# Altium schematic symbol library Esp32 CAM SCH.SchLib: 28 symbols
Pins are listed as number, name and electrical type; pins without a type are passive.

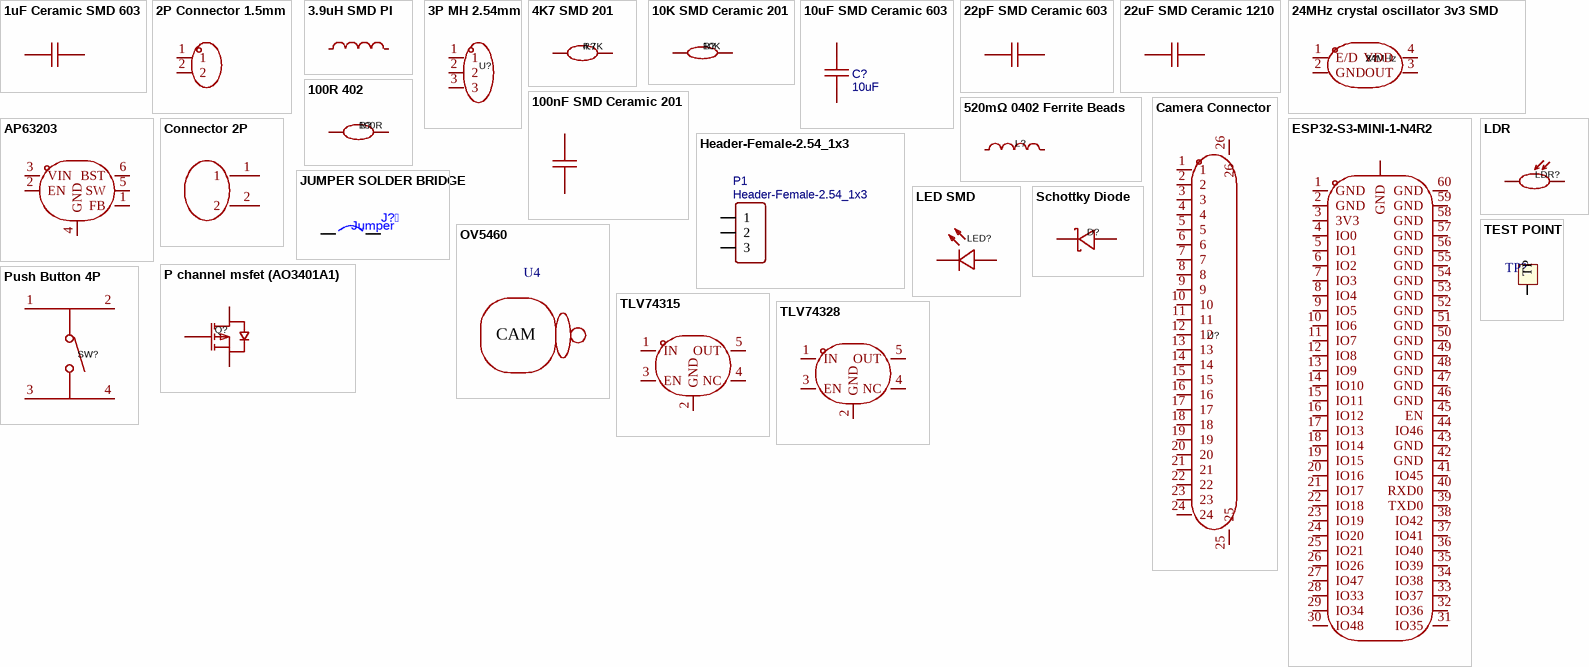
[diagram p0: symbols 1uF Ceramic SMD 603 to TLV74328]

## 1uF Ceramic SMD 603
designator C?, comment 1uF  (value not drawn)
16V 1uF Y5V -20%~+80% 0603 Multilayer Ceramic Capacitors MLCC - SMD/SMT ROHS; Manufacturer: SAMWHA(三和); Symbol: CS1608Y5V105Z160NRB; Add into BOM: yes; Device: CS1608Y5V105Z160NRB; LCSC Part Name: 1uF -20%~+80% 16V; Supplier Part: C5189821; Manufacturer Part: CS1608Y5V105Z160NRB; Supplier Footprint: 0603; JLCPCB Part Class: Extended Part; Datasheet: https://atta.szlcsc.com/upload/public/pdf/source/20221012/139B9393213A50C271C48844AD3DF211.pdf; Supplier: LCSC; Convert to PCB: yes; Value: 1uF; Tolerance: -20%~+80%
footprint 1uF Cap
pins: 1, 2

## 2P Connector 1.5mm
designator CN?, comment HDGC1501WV-2P  (value not drawn)
Manufacturer: HDGC(华德共创); Add into BOM: yes; Pins Structure: 1x2P; Pitch: 1.5mm; Reference Series: ZH; Number of PINs Per Row: 2; Current Rating (Max): 1A; Symbol: HDGC1501WV-2P; Device: HDGC1501WV-2P; LCSC Part Name: 1x2P 间距:1.5mm 直插 系列:ZH; Supplier Part: C5175212; Manufacturer Part: HDGC1501WV-2P; Supplier Footprint: 插件,P=1.5mm; JLCPCB Part Class: Extended Part; Datasheet: https://atta.szlcsc.com/upload/public/pdf/source/20220916/0E4647A3A85E9D7CFB69507DE86E8F95.pdf; Supplier: LCSC; Convert to PCB: yes; Mounting Style: Direct Insert; Number of Pins: 2P; Number of Rows: 1
footprint 2P white Connector 1.5mm
pins: 1, 2

## 3.9uH SMD PI
designator L?, comment 3.9uH  (value not drawn)
1.5A 3.9uH ±20% 1.4A SMD,3x3mm Power Inductors ROHS; Manufacturer: cjiang(长江微电); Symbol: FNR3015S3R9MT; Add into BOM: yes; DC Resistance (DCR): 137mΩ; Device: FNR3015S3R9MT; LCSC Part Name: 3.9uH ±20% 1.4A; Supplier Part: C167751; Manufacturer Part: FNR3015S3R9MT; Supplier Footprint: SMD,3x3mm; JLCPCB Part Class: Extended Part; Datasheet: https://atta.szlcsc.com/upload/public/pdf/source/20190327/C167925_9EFF0AABC4CA629C2CC95961DBF7D39D.pdf; Supplier: LCSC; Convert to PCB: yes; Value: 3.9uH; Tolerance: ±20%; Saturation Current (Isat): 1.4A
footprint 3.9uH power Inductor
pins: 1, 2

## 3P MH 2.54mm
designator U?, comment HB-PH3-25413PB2GOP  (value not drawn)
Manufacturer: HANBO(汉博); Add into BOM: yes; Pin Structure: 1x3P; Pitch: 2.54mm; Circluar Pins/Square Pins: Square Pins; Current Rating (Max): 3A; Voltage Rating (Max): 250V; Soldering Temperature(Max): 260℃; Symbol: HB-PH3-25413PB2GOP; Device: HB-PH3-25413PB2GOP; LCSC Part Name: 间距:2.54mm 1x3P 直插 方针; Supplier Part: C6332196; Manufacturer Part: HB-PH3-25413PB2GOP; Supplier Footprint: 插件,P=2.54mm; JLCPCB Part Class: Extended Part; Datasheet: https://atta.szlcsc.com/upload/public/pdf/source/20230803/F72D259687963761DF1B552F3BB84A31.pdf; Supplier: LCSC; Convert to PCB: yes; Row Spacing: 2.54mm; Mounting Type: Straight; Number of Rows: Plugin; Number of Pins: 3P; Length of Mating Pin: 6mm; Insulation Height: 2.54mm; Length of End Connection Pin: 3mm; Contact Plating: Gold; Operating Temperature Range: -40℃~+105℃; Color: Black
footprint 3P MH 2.54mm
pins: 1, 2, 3

## 4K7 SMD 201
designator R?, comment 4.7K
50mW Thick Film Resistors 25V ±1% ±200ppm/℃ 4.7kΩ 0201 Chip Resistor - Surface Mount ROHS; Manufacturer: YAGEO(国巨); Symbol: AF0201FR-074K7L; Add into BOM: yes; Device: AF0201FR-074K7L; LCSC Part Name: 厚膜电阻 4.7kΩ ±1% 50mW; Supplier Part: C2105831; Manufacturer Part: AF0201FR-074K7L; Supplier Footprint: 0201; JLCPCB Part Class: Extended Part; Datasheet: https://atta.szlcsc.com/upload/public/pdf/source/20210712/C2105831_B7E5D2600BF229B29F1C9CE0CCE2B3D7.pdf; Supplier: LCSC; Convert to PCB: yes; Type: Thick Film Resistors; Value: 4.7kΩ; Tolerance: ±1%; Temperature Coefficient: ±200ppm/℃; Operating Temperature Range: -55℃~+125℃
pins: 1, 2

## 10K SMD Ceramic 201
designator R?, comment 10K
50mW Thick Film Resistors 25V ±1% ±200ppm/℃ 10kΩ 0201 Chip Resistor - Surface Mount ROHS; Manufacturer: YAGEO(国巨); Symbol: AF0201FR-0710KL; Add into BOM: yes; Device: AF0201FR-0710KL; LCSC Part Name: 厚膜电阻 10kΩ ±1% 50mW; Supplier Part: C143978; Manufacturer Part: AF0201FR-0710KL; Supplier Footprint: 0201; JLCPCB Part Class: Extended Part; Datasheet: https://atta.szlcsc.com/upload/public/pdf/source/20180927/C229861_4ABDC471507C1ED6AFB4BA66AFC8620A.pdf; Supplier: LCSC; Convert to PCB: yes; Type: Thick Film Resistors; Value: 10kΩ; Tolerance: ±1%; Temperature Coefficient: ±200ppm/℃; Operating Temperature Range: -55℃~+125℃
footprint 10K SMD Ceramic 201
pins: 1, 2

## 10uF SMD Ceramic 603
designator C?, comment 10uF
10V 10uF B ±10% 0603 Multilayer Ceramic Capacitors MLCC - SMD/SMT ROHS; Manufacturer: muRata(村田); Manufacturer Part: GRM188B31A106KE69D; nameAlias: Value; Contributor: LCSC; Supplier: LCSC; Supplier Part: C469532; JLCPCB Part Class: Extended Part; spicePre: C; spiceSymbolName: GRM188B31A106KE69D
footprint 10uF SMD Ceramic 603
pins: 1, 2

## 22pF SMD Ceramic 603
designator C?, comment 22pF  (value not drawn)
16V 22pF C0G ±5% 0603 Multilayer Ceramic Capacitors MLCC - SMD/SMT ROHS; Manufacturer: KEMET(基美); Symbol: C0603C220J4GAC7867; Add into BOM: yes; Device: C0603C220J4GAC7867; LCSC Part Name: 22pF ±5% 16V; Supplier Part: C561800; Manufacturer Part: C0603C220J4GAC7867; Supplier Footprint: 0603; JLCPCB Part Class: Extended Part; Datasheet: https://atta.szlcsc.com/upload/public/pdf/source/20200618/C561800_1756A88345AB30E1FCE50DFDDC46141D.pdf; Supplier: LCSC; Convert to PCB: yes; Value: 22pF; Tolerance: ±5%
footprint 22pF SMD Ceramic 603
pins: 1, 2

## 22uF SMD Ceramic 1210
designator C?, comment 22uF  (value not drawn)
10V 22uF X7R ±10% 1210 Multilayer Ceramic Capacitors MLCC - SMD/SMT ROHS; Manufacturer: KEMET(基美); Symbol: C1210C226K8RACAUTO; Add into BOM: yes; Device: C1210C226K8RACAUTO; LCSC Part Name: 22uF ±10% 10V; Supplier Part: C561843; Manufacturer Part: C1210C226K8RACAUTO; Supplier Footprint: 1210; JLCPCB Part Class: Extended Part; Datasheet: https://atta.szlcsc.com/upload/public/pdf/source/20200618/C561824_5D581F10239D32C68F7958F74E29471B.pdf; Supplier: LCSC; Convert to PCB: yes; Value: 22uF; Tolerance: ±10%
footprint 22uF SMD Ceramic 1210
pins: 1, 2

## 24MHz crystal oscillator 3v3 SMD
designator X?, comment 24MHz
3.3V 10mA ±50ppm 24MHz SMD3225-4P Crystal Oscillators ROHS; Manufacturer: HD(浩都频率); Symbol: 830240003W1; Add into BOM: yes; Device: 830240003W1; LCSC Part Name: 830240003W1; Supplier Part: C655082; Manufacturer Part: 830240003W1; Supplier Footprint: SMD3225-4P; JLCPCB Part Class: Extended Part; Datasheet: https://atta.szlcsc.com/upload/public/pdf/source/20220223/C18A1C64EF3D60DAEF5D17439C785677.pdf; Supplier: LCSC; Convert to PCB: yes; Value: 24MHz; Supply Voltage: 3.3V; Supply Current (Max): 10mA; Frequency Stability(Full temperature range): ±50ppm; Operating Temperature: -20℃~+70℃
footprint 24MHz crystal oscillator 3v3 SMD
pins: 1 E/D, 2 GND, 3 OUT, 4 VDD

## 100nF SMD Ceramic 201
designator C?, comment 100nF  (value not drawn)
10V 100nF X5R ±10% 0201 Multilayer Ceramic Capacitors MLCC - SMD/SMT ROHS; Manufacturer: muRata(村田); Symbol: GRM033R61A104KE84D; Add into BOM: yes; Device: GRM033R61A104KE84D; LCSC Part Name: 100nF ±10% 10V; Supplier Part: C161466; Manufacturer Part: GRM033R61A104KE84D; Supplier Footprint: 0201; JLCPCB Part Class: Extended Part; Datasheet: https://atta.szlcsc.com/upload/public/pdf/source/20181011/C161466_67687620A192BB2B75972275444AF1E7.pdf; Supplier: LCSC; Convert to PCB: yes; Value: 100nF; Tolerance: ±10%
footprint 100nF SMD Ceramic 201
pins: 1, 2

## 100R 402
designator R?, comment 100R
100mW Thick Film Resistors ±100ppm/℃ ±1% 100Ω 0402 Chip Resistor - Surface Mount ROHS; Manufacturer: PANASONIC(松下); Symbol: ERJ2RKF1000X; Add into BOM: yes; Device: ERJ2RKF1000X; LCSC Part Name: 100Ω ±1% 100mW 厚膜电阻; Supplier Part: C413063; Manufacturer Part: ERJ2RKF1000X; Supplier Footprint: 0402; JLCPCB Part Class: Extended Part; Datasheet: https://atta.szlcsc.com/upload/public/pdf/source/20190820/C413063_95D61CC78C57CA6EC5636452389D6E3B.pdf; Supplier: LCSC; Convert to PCB: yes; Type: Thick Film Resistors; Value: 100Ω; Tolerance: ±1%; Overload Voltage (Max): -; Temperature Coefficient: ±100ppm/℃; Operating Temperature Range: -55℃~+155℃
footprint 100R 402
pins: 1, 2

## 520mΩ 0402 Ferrite Beads
designator L?
520mΩ ±25% 600Ω@100MHz 0402 Ferrite Beads ROHS; Manufacturer: muRata(村田); Symbol: BLM15AG601SN1D; Add into BOM: yes; Current Rating: 300mA; Circuits: 1; Device: BLM15AG601SN1D; LCSC Part Name: 单路 0402磁珠 阻抗600Ω@100MHz; Supplier Part: C76884; Manufacturer Part: BLM15AG601SN1D; Supplier Footprint: 0402; JLCPCB Part Class: Extended Part; Datasheet: https://atta.szlcsc.com/upload/public/pdf/source/20181120/C333978_3E581FB55966932B05020139ABDE8E01.pdf; Supplier: LCSC; Convert to PCB: yes; Impedance @ Frequency: 600Ω@100MHz; Tolerance: ±25%; DC Resistance: 520mΩ
footprint Ferrite
pins: 1, 2

## AP63203
designator U?, comment AP63203WU-7  (value not drawn)
Step-down type Fixed 2A 3.3V 3.8V~32V TSOT-23-6 DC-DC Converters ROHS; Manufacturer: DIODES(美台); Add into BOM: yes; Switching Frequency: 1.1MHz; Number of Outputs: 1; Switch tube (built-in/external): 内置; Symbol: AP63203WU-7; Device: AP63203WU-7; LCSC Part Name: AP63203WU-7; Supplier Part: C780769; Manufacturer Part: AP63203WU-7; Supplier Footprint: TSOT-23-6; JLCPCB Part Class: Extended Part; Datasheet: https://atta.szlcsc.com/upload/public/pdf/source/20210622/C780769_099C67289BD3EC61AAFB52D8B07125B3.pdf; Supplier: LCSC; Convert to PCB: yes; Function: Step-down type; Output Type: Fixed; Input Voltage: 3.8V~32V; Output Voltage: 3.3V; Output Current (Max): 2A; Operating Temperature: -40℃~+85℃@(TA); Synchronous Rectification: Yes; Topology: Step-down
footprint 3V3 Converter (AP63203)
pins: 1 FB, 2 EN, 3 VIN, 4 GND, 5 SW, 6 BST

## Camera Connector
designator U?, comment FPC-05FB-24PH20  (value not drawn)
Dual-sided contacts / top and bottom connection -25℃~+85℃ Flip type 0.5mm Horizontal attachment 24P SMD; Manufacturer: XUNPU(讯普); Add into BOM: yes; Locking Feature: Clamshell; FFC, FCB Thickness: 0.3mm; Symbol: FPC-05FB-24PH20; Device: FPC-05FB-24PH20; LCSC Part Name: 间距:0.5mm P数:24P 翻盖式 双侧触点/上下接; Supplier Part: C2856831; Manufacturer Part: FPC-05FB-24PH20; Supplier Footprint: SMD,P=0.5mm,卧贴; JLCPCB Part Class: Extended Part; Datasheet: https://atta.szlcsc.com/upload/public/pdf/source/20210922/C2856831_717985F95873A81D5C0B7E3F2E5E5327.pdf; Supplier: LCSC; Convert to PCB: yes; Contact Type: Double-sided contacts/up and down connection; Number of Contacts: 24P; Pitch: 0.5mm; Mounting Type: 卧贴; Height Above Board: 2mm; Operating Temperature Range: -25℃~+85℃
footprint Camera Connector
pins: 1, 2, 3, 4, 5, 6, 7, 8, 9, 10, 11, 12, 13, 14, 15, 16, 17, 18, 19, 20, 21, 22, 23, 24, 25, 26

## Connector 2P
designator CN?, comment B2B-PH-K-S(LF)(SN)  (value not drawn)
1x2P 2P PH Tin 2 -25℃~+85℃ 2A 1 2mm Brass Direct Insert Plugin,P=2mm Wire To Board Connector ROHS; Manufacturer: JST; Add into BOM: yes; Number of PINs Per Row: 2; Rated Voltage (Max): 100V; Plastic Material: PA66; Flame Retardant Rating: UL94V-0; Supplementary Features: K-leg punch; Z-Height of the Board: 6mm; X-Length of Bottom Edge on Board (Spacing Line): 5.9mm; Y-Width of Bottom Edge on Board: 4.5mm; Symbol: B2B-PH-K-S(LF)(SN); Device: B2B-PH-K-S(LF)(SN); LCSC Part Name: 1x2P 间距:2mm 直插 系列:PH; Supplier Part: C131337; Manufacturer Part: B2B-PH-K-S(LF)(SN); Supplier Footprint: 插件,P=2mm; JLCPCB Part Class: Extended Part; Datasheet: https://atta.szlcsc.com/upload/public/pdf/source/20171026/C131342_15089839687311058815.pdf; Supplier: LCSC; Convert to PCB: yes; Pins Structure: 1x2P; Pitch: 2mm; Mounting Style: Direct Insert; Reference Series: PH; Number of Pins: 2P; Number of Rows: 1; Row Spacing: -; Current Rating (Max): 2A; Contact Material: Brass; Contact Plating: Tin; Operating Temperature Range: -25℃~+85℃; Colour: White
footprint Connector 2P
pins: 1, 2

## ESP32-S3-MINI-1-N4R2
designator U?  (value not drawn)
Manufacturer: ESPRESSIF(乐鑫); Add into BOM: yes; Antenna Type: 板载PCBAntenna; Symbol: ESP32-S3-MINI-1-N4R2; Device: ESP32-S3-MINI-1-N4R2; LCSC Part Name: ESP32-S3-MINI-1-N4R2; Supplier Part: C3013941; Manufacturer Part: ESP32-S3-MINI-1-N4R2; Supplier Footprint: SMD; JLCPCB Part Class: Extended Part; Supplier: LCSC; Convert to PCB: yes
footprint ESP32-S3-MINI-1-N8
pins: 1 GND, 2 GND, 3 3V3, 4 IO0, 5 IO1, 6 IO2, 7 IO3, 8 IO4, 9 IO5, 10 IO6, 11 IO7, 12 IO8, 13 IO9, 14 IO10, 15 IO11, 16 IO12, 17 IO13, 18 IO14, 19 IO15, 20 IO16, 21 IO17, 22 IO18, 23 IO19, 24 IO20, 25 IO21, 26 IO26, 27 IO47, 28 IO33, 29 IO34, 30 IO48, 31 IO35, 32 IO36, 33 IO37, 34 IO38, 35 IO39, 36 IO40, 37 IO41, 38 IO42, 39 TXD0, 40 RXD0, 41 IO45, 42 GND, 43 GND, 44 IO46, 45 EN, 46 GND, 47 GND, 48 GND, 49 GND, 50 GND, 51 GND, 52 GND, 53 GND, 54 GND, 55 GND, 56 GND, 57 GND, 58 GND, 59 GND, 60 GND, GND

## Header-Female-2.54_1x3
designator P1
Manufacturer: BOOMELE(博穆精密); Manufacturer Part: 2.54-1*3P母; Supplier Part: C146243; Supplier: LCSC; JLCPCB Part Class: Extended Part; spicePre: P; spiceSymbolName: Header-Female-2.54_1x3
footprint 3P FH 2.54mm
pins: 1, 2, 3

## JUMPER SOLDER BRIDGE
designator J?, comment Jumper
SMD JUMPER
footprint PAD-JUMPER-2
pins: 1, 2

## LDR
designator LDR?, comment GT36528  (value not drawn)
SMD,2.4x3.6mm Photoresistors ROHS; Manufacturer: JCHL(晶创和立); Add into BOM: yes; Symbol: GT36528; Device: GT36528; LCSC Part Name: GT36528; Supplier Part: C2904881; Manufacturer Part: GT36528; Supplier Footprint: SMD,2.4x3.6mm; JLCPCB Part Class: Extended Part; Datasheet: https://atta.szlcsc.com/upload/public/pdf/source/20211014/6AB64DE2EFA295B23F73ED070F69DE44.pdf; Supplier: LCSC; Convert to PCB: yes
footprint LDR
pins: 1, 2

## LED SMD
designator LED?, comment XYC-IRC18C-24  (value not drawn)
Manufacturer: NEWOPTO(鑫永诚光电); Add into BOM: yes; Vf - Forward Voltage: 1.4V~1.8V; Power Dissipation: 900mW; Wavelength: 940nm; Current - DC Forward (If): 500mA; Reverse Voltage: 5V; View Angle: 120°; Symbol: XYC-IRC18C-24; Device: XYC-IRC18C-24; LCSC Part Name: XYC-IRC18C-24; Supplier Part: C2988733; Manufacturer Part: XYC-IRC18C-24; Supplier Footprint: SMD3030; JLCPCB Part Class: Extended Part; Datasheet: https://atta.szlcsc.com/upload/public/pdf/source/20220415/AF6ACF3234B7CCBAD1FA94129DBDDB73.pdf; Supplier: LCSC; Convert to PCB: yes; Operating Temperature: -40℃~+85℃
footprint LED SMD
pins: 1 C, 2 A

## OV5460
designator U4  (value not drawn)
Convert to PCB: yes; Origin Footprint: OV5640; Symbol: OV5460; Device: OV5460; Add into BOM: yes
footprint OV5640
text: CAM

## P channel msfet (AO3401A1)
designator Q?, comment AO3401A  (value not drawn)
30V 4A 44mΩ@10V,4.3A 1.4W 1.3V@250uA 1 Piece P-Channel SOT-23 MOSFETs ROHS; Manufacturer: AOS; Device: AO3401A_C15127; Add into BOM: yes; Type: 1个PChannel; Total Gate Charge (Qg@Vgs): 12.2nC@4.5V; Input Capacitance (Ciss@Vds): 1.2nF@15V; Symbol: AO3401A; LCSC Part Name: 1个P沟道 耐压:30V 电流:4A; Supplier Part: C15127; Manufacturer Part: AO3401A; Supplier Footprint: SOT-23; JLCPCB Part Class: Basic Part; Datasheet: https://atta.szlcsc.com/upload/public/pdf/source/20160507/1462613609053.pdf; Supplier: LCSC; Convert to PCB: yes; Drain Source On Resistance (RDS(on)@Vgs,Id): 44mΩ@10V,4.3A; Gate Threshold Voltage (Vgs(th)@Id): 1.3V@250uA; Operating Temperature: -55℃~+150℃@(Tj)
footprint P channel msfet (AO3401A1)
pins: 1 G, 2 S, 3 D

## Push Button 4P
designator SW?, comment TS-1102-5516  (value not drawn)
6mm 5.5mm Round Button 25mA Direct Insert 6mm SPST 100000 Times 1.6N 24V Plugin Tactile Switches ROHS; Manufacturer: SOFNG(硕方); Add into BOM: yes; Actuator/Cap Color: Black; Mechanical Life: 100000次; Symbol: TS-1102-5516; Device: TS-1102-5516; LCSC Part Name: 6*6*5.5mm 直插 轻触开关; Supplier Part: C183624; Manufacturer Part: TS-1102-5516; Supplier Footprint: 插件; JLCPCB Part Class: Extended Part; Datasheet: https://atta.szlcsc.com/upload/public/pdf/source/20200911/C111374_C70AFD1A656F1EADE52E4A6E5D3FC819.pdf; Supplier: LCSC; Convert to PCB: yes; Circuit: SPST; Actuator Style: Round Button; Operating Force: 1.6N; Mounting Style: Straight; Switch Length: 6mm; Switch Width: 6mm; Switch Height: 5.5mm; Contact Current: 25mA; Voltage Rating (DC): 24V; With Lamp: -; Operating Temperature: -40℃~+85℃
footprint Push Button 4P
pins: 1, 2, 3, 4

## Schottky Diode
designator D?, comment MBR120VLSFT1G  (value not drawn)
20V 300mV@1A 1A SOD-123FL Schottky Diodes ROHS; Manufacturer: onsemi(安森美); Add into BOM: yes; Reverse Leakage Current (Ir): 600uA@20V; Symbol: MBR120VLSFT1G; Device: MBR120VLSFT1G; LCSC Part Name: 电压:20V 电流:1A; Supplier Part: C223608; Manufacturer Part: MBR120VLSFT1G; Supplier Footprint: SOD-123FL; JLCPCB Part Class: Extended Part; Datasheet: https://atta.szlcsc.com/upload/public/pdf/source/20221020/29D26ECD33A75D76A8E47ED9553F3BCF.pdf; Supplier: LCSC; Convert to PCB: yes; Forward Voltage (Vf@If): 300mV@1A; Reverse Voltage (Vr): 20V; Average Rectified Current (Io): 1A
footprint Schottky Diode
pins: 1 K, 2 A

## TEST POINT
designator TP?  (value not drawn)
footprint TESTPOINT
pins: 1 TP

## TLV74315
designator U?, comment TLV74315PDBVR  (value not drawn)
300mA Fixed 1.5V Positive electrode 5.5V SOT-23-5 Voltage Regulators - Linear, Low Drop Out (LDO) Regulators ROHS; Manufacturer: TI(德州仪器); Add into BOM: yes; Dropout Voltage: 400mV@(300mA); standby current: 60uA; Number of Outputs: 1; Symbol: TLV74315PDBVR; Device: TLV74315PDBVR; LCSC Part Name: 具有使能功能的 300mA、低 IQ、低压降稳压器; Supplier Part: C469895; Manufacturer Part: TLV74315PDBVR; Supplier Footprint: SOT-23-5; JLCPCB Part Class: Extended Part; Datasheet: https://www.ti.com/cn/lit/gpn/tlv743p; Supplier: LCSC; Convert to PCB: yes; Output Type: Fixed; Maximum Input Voltage: 5.5V; Output Voltage: 1.5V; Output Current: 300mA; Feature: 防静电保护；Short-Circuit  Protection；低ESR；Thermal Protection(TSD)；欠压闭锁；Overcurrent Protection(OCP)；带使能; Operating Temperature: -40℃~+125℃@(Tj); Output Polarity: Positive electrode
footprint 1V5 Converter (TLV74215)
pins: 1 IN, 2 GND, 3 EN, 4 NC, 5 OUT

## TLV74328
designator U?, comment TLV74328PDBVR  (value not drawn)
300mA 68dB Fixed 2.8V Positive electrode 5.5V SOT-23-5 Voltage Regulators - Linear, Low Drop Out (LDO) Regulators ROHS; Manufacturer: TI(德州仪器); Add into BOM: yes; Dropout Voltage: 290mV@(300mA); standby current: 60uA; Number of Outputs: 1; Symbol: TLV74328PDBVR; Device: TLV74328PDBVR; LCSC Part Name: 具有使能功能的 300mA、低 IQ、低压降稳压器; Supplier Part: C408971; Manufacturer Part: TLV74328PDBVR; Supplier Footprint: SOT-23-5; JLCPCB Part Class: Extended Part; Datasheet: https://www.ti.com/cn/lit/gpn/tlv743p; Supplier: LCSC; Convert to PCB: yes; Output Type: Fixed; Maximum Input Voltage: 5.5V; Output Voltage: 2.8V; Output Current: 300mA; Power Supply Rejection Ratio (PSRR): 68dB; Feature: 防静电保护；低ESR；Thermal Protection(TSD)；欠压闭锁；Overcurrent Protection(OCP)；带使能; Operating Temperature: -40℃~+125℃@(Tj); Output Polarity: Positive electrode
footprint 2V8 Converter (TLV74328)
pins: 1 IN, 2 GND, 3 EN, 4 NC, 5 OUT